# Altium footprint library SamacSys.PcbLib: 7 footprints
Each footprint in its own frame and in the unit in brackets; x right, y up, seen from the top. Pads: shape width x height; smd on the part's side, far side on the other; paste and mask are expansions set on the pad; w line width, h text height; cw(c..) or ccw(c..) is an arc to the next point about the centre after c.
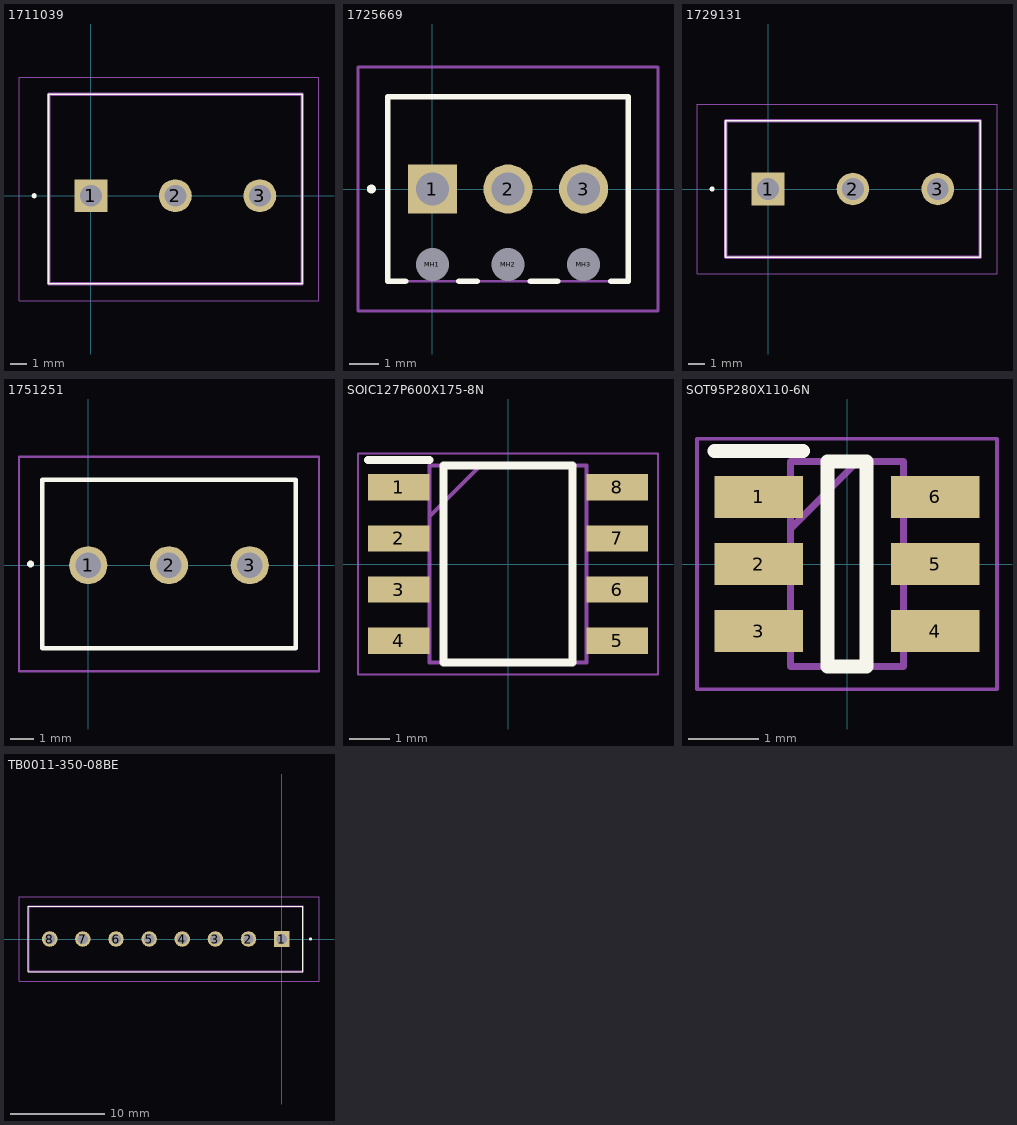
[diagram p0: the footprints below, top view; thin cyan lines are the x and y axes]

## 1711039 [mm]
pads (3):
  rect 1.95x1.95 hole 1.3: 1(0,0)
  round 1.95 hole 1.3: 2(5,0) 3(10,0)
Top Overlay:
  circle w0.2: c-3.35,0 r0.05
  lines w0.1: -2.5,-5.2 12.5,-5.2 12.5,6 -2.5,6 -2.5,-5.2
Mechanical 13:
  lines w0.2: -2.5,-5.2 12.5,-5.2 12.5,6 -2.5,6 -2.5,-5.2
Mechanical 15:
  lines w0.05: -4.25,-6.2 13.5,-6.2 13.5,7 -4.25,7 -4.25,-6.2
3D body "1711039.stp": height 18, standoff -5, extent -2.773,-5.181 12.827,5.969

## 1725669 [mm]
pads (6):
  rect 1.65x1.65 hole 1.1: 1(0,0)
  round 1.65 hole 1.1: 2(2.54,0) 3(5.08,0)
  round 0.55 hole 1.1 unplated: MH1(0,-2.54) MH2(2.54,-2.54) MH3(5.08,-2.54)
Top Overlay:
  lines w0.2: -0.9,-3.1 -1.5,-3.1 -1.5,3.1 6.58,3.1 6.58,-3.1 6,-3.1 ; 0.9,-3.1 1.5,-3.1 ; 3.3,-3.1 4.2,-3.1 ; -2.1,0 ccw(c-2.05,0) -2,0 ; -2.1,0 cw(c-2.05,0) -2,0 ; -2.1,0 ccw(c-2.05,0) -2,0
Mechanical 13:
  lines w0.1: -1.5,-3.1 6.58,-3.1 6.58,3.1 -1.5,3.1 -1.5,-3.1
Mechanical 15:
  lines w0.1: -2.5,-4.1 7.58,-4.1 7.58,4.1 -2.5,4.1 -2.5,-4.1
3D body "1725669.stp": height 8.5, standoff -3.5, extent -0.04,0 8.1,6.2

## 1729131 [mm]
pads (3):
  rect 1.95x1.95 hole 1.3: 1(0,0)
  round 1.95 hole 1.3: 2(5.08,0) 3(10.16,0)
Top Overlay:
  circle w0.2: c-3.35,0 r0.05
  lines w0.1: -2.54,-4.075 -2.54,4.075 12.7,4.075 12.7,-4.075 -2.54,-4.075
Mechanical 13:
  lines w0.2: -2.54,-4.075 -2.54,4.075 12.7,4.075 12.7,-4.075 -2.54,-4.075
Mechanical 15:
  lines w0.05: -4.25,-5.075 -4.25,5.075 13.7,5.075 13.7,-5.075 -4.25,-5.075
3D body "1729131.stp": height 9.97, standoff -3.5, extent -0.57,0 15.235,8.15

## 1751251 [mm]
pads (3):
  round 1.65 hole 1.1: 1(0,0) 2(3.5,0) 3(7,0)
Top Overlay:
  lines w0.2: -2.5,0 ccw(c-2.5,0.05) -2.5,0.1 ccw(c-2.5,0.05) -2.5,0 ; -2,-3.6 9,-3.6 9,3.7 -2,3.7 -2,-3.6
Mechanical 13:
  lines w0.1: -2,-3.6 9,-3.6 9,3.7 -2,3.7 -2,-3.6
Mechanical 15:
  lines w0.1: -3,-4.6 10,-4.6 10,4.7 -3,4.7 -3,-4.6
3D body "1751251.stp": height 8.5, standoff -3.5, extent 0,0 11,7.3

## SOIC127P600X175-8N [mm]
pads (8):
  rect 1.525x0.65 smd: 1(-2.712,1.905) 2(-2.712,0.635) 3(-2.712,-0.635) 4(-2.712,-1.905) 5(2.712,-1.905) 6(2.712,-0.635) 7(2.712,0.635) 8(2.712,1.905)
Top Overlay:
  lines w0.2: -3.475,2.58 -1.95,2.58 ; -1.6,-2.45 -1.6,2.45 1.6,2.45 1.6,-2.45 -1.6,-2.45
Mechanical 13:
  lines w0.1: -1.95,1.18 -0.68,2.45 ; -1.95,-2.45 -1.95,2.45 1.95,2.45 1.95,-2.45 -1.95,-2.45
Mechanical 15:
  lines w0.05: -3.725,-2.75 -3.725,2.75 3.725,2.75 3.725,-2.75 -3.725,-2.75
3D body "NE555DR.stp": height 1.75, standoff 0, extent -3,-2.45 3,2.45

## SOT95P280X110-6N [mm]
pads (6):
  rect 1.25x0.6 smd: 1(-1.25,0.95) 2(-1.25,0) 3(-1.25,-0.95) 4(1.25,-0.95) 5(1.25,0) 6(1.25,0.95)
Top Overlay:
  lines w0.2: -1.875,1.6 -0.625,1.6 ; -0.275,-1.45 -0.275,1.45 0.275,1.45 0.275,-1.45 -0.275,-1.45
Mechanical 13:
  lines w0.1: -0.8,0.5 0.15,1.45 ; -0.8,-1.45 -0.8,1.45 0.8,1.45 0.8,-1.45 -0.8,-1.45
Mechanical 15:
  lines w0.05: -2.125,-1.775 -2.125,1.775 2.125,1.775 2.125,-1.775 -2.125,-1.775
3D body "LMR51430XFDDCR.stp": height 0, standoff 0, extent 0,0 0,0

## TB0011-350-08BE [mm]
pads (8):
  rect 1.65x1.65 hole 1.1: 1(0,0)
  round 1.65 hole 1.1: 2(-3.5,0) 3(-7,0) 4(-10.5,0) 5(-14,0) 6(-17.5,0) 7(-21,0) 8(-24.5,0)
Top Overlay:
  circle w0.2: c3.05,0 r0.05
  lines w0.1: -26.75,-3.45 -26.75,3.45 2.25,3.45 2.25,-3.45 -26.75,-3.45
Mechanical 13:
  lines w0.2: -26.75,-3.45 -26.75,3.45 2.25,3.45 2.25,-3.45 -26.75,-3.45
Mechanical 15:
  lines w0.05: -27.75,-4.45 -27.75,4.45 3.95,4.45 3.95,-4.45 -27.75,-4.45
3D body "TB0011-350-08BE.stp": height 8.5, standoff -3.4, extent -26.82,-3.45 2.18,3.45